# Altium footprint library PCB - LEADED - SOP - ANALOG MSOP-10 RM-10.PcbLib: 1 footprints
Each footprint in its own frame and in the unit in brackets; x right, y up, seen from the top. Pads: shape width x height; smd on the part's side, far side on the other; paste and mask are expansions set on the pad; w line width, h text height; cw(c..) or ccw(c..) is an arc to the next point about the centre after c.
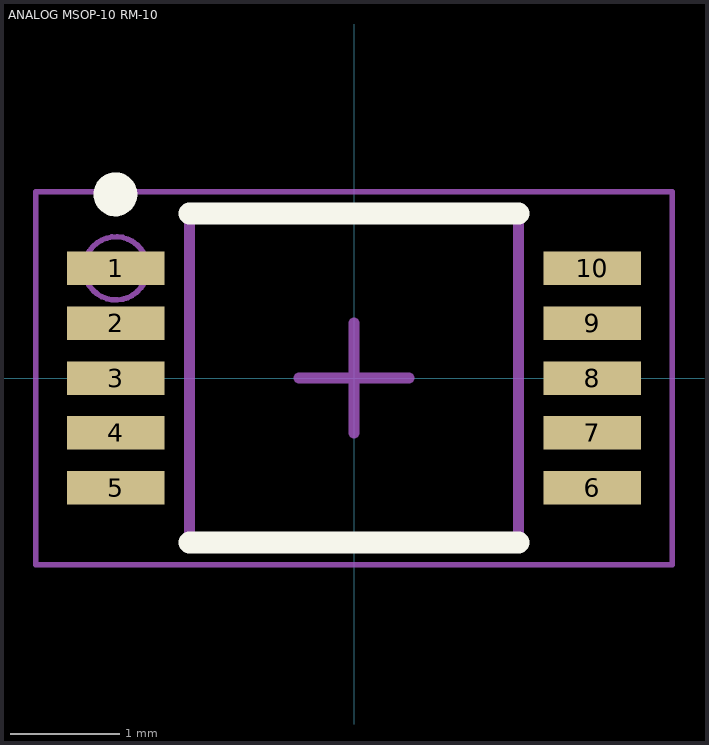
[diagram p0: the footprint, top view; thin cyan lines are the x and y axes]

## ANALOG MSOP-10 RM-10 [mil] "MSOP-10 Package, 0.5mm Pitch, 3.00x3.00 mm Body"
height 43.31
pads (10):
  rect 35x12.01 smd: 1(-85.45,39.38) 2(-85.45,19.7) 3(-85.45,0.01) 4(-85.45,-19.67) 5(-85.45,-39.36) 6(85.45,-39.36) 7(85.45,-19.67) 8(85.45,0.01) 9(85.45,19.7) 10(85.45,39.38)
Top Overlay:
  circle w7.87: c-85.63,65.94 r3.94
  lines w7.87: -59.06,-59.04 59.06,-59.04 ; -59.06,59.07 59.06,59.07
Mechanical 13:
  circle w1.97: c-85.45,39.38 r11.35
  lines w3.94: -59.06,-59.04 -59.06,59.07 59.06,59.07 59.06,-59.04 -59.06,-59.04
Mechanical 15:
  lines w1.97: -114.17,-66.91 -114.17,66.94 114.17,66.94 114.17,-66.91 -114.17,-66.91
Mechanical 2 (Mech9):
  lines w3.94: -19.68,0.01 0,0.01 ; 0,-19.67 0,0.01 ; 0,19.7 0,0.01 ; 19.68,0.01 0,0.01
3D body "Analog Devices - TFSOP-10 - MSE v2.STEP": height 43.78, standoff -6.06, extent -97.2,-59.04 97.2,59.07